# Altium footprint library Footprint Library.PcbLib: 53 footprints (part 3 of 4)
Each footprint in its own frame and in the unit in brackets; x right, y up, seen from the top. Pads: shape width x height; smd on the part's side, far side on the other; paste and mask are expansions set on the pad; w line width, h text height; cw(c..) or ccw(c..) is an arc to the next point about the centre after c.
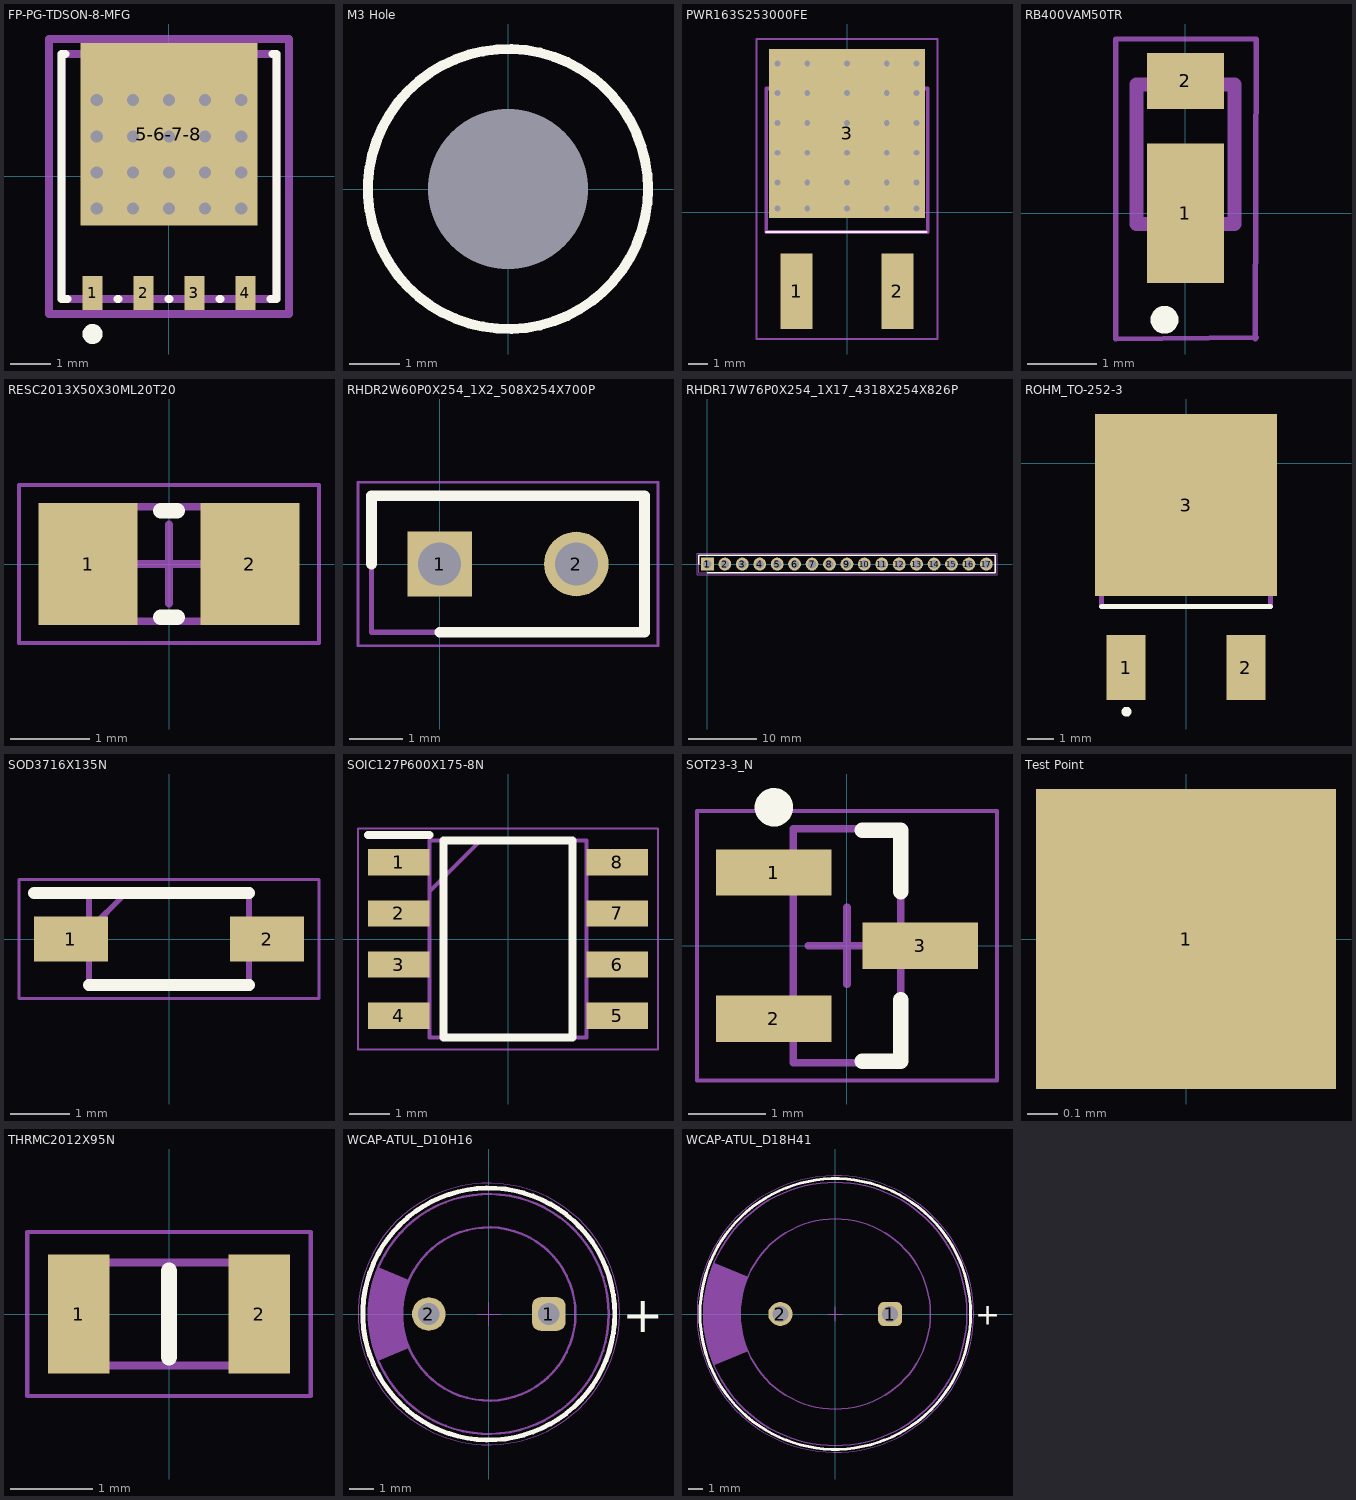
[diagram p2: the footprints below, top view; thin cyan lines are the x and y axes]

## FP-PG-TDSON-8-MFG [mm]
pads (5):
  rect 0.5x0.85 smd paste-1000 mask+0: 1(-1.905,-2.9) 2(-0.635,-2.9) 3(0.635,-2.9) 4(1.905,-2.9)
  rect 4.41x4.55 smd paste-1000 mask-1000: 5-6-7-8(0,1.05)
via 0.9,-0.8 diameter 0.6 hole 0.3
via -0.9,-0.8 diameter 0.6 hole 0.3
via -1.8,1.9 diameter 0.6 hole 0.3
via -1.8,1 diameter 0.6 hole 0.3
via -1.8,0.1 diameter 0.6 hole 0.3
via -0.9,0.1 diameter 0.6 hole 0.3
via -0.9,1 diameter 0.6 hole 0.3
via -0.9,1.9 diameter 0.6 hole 0.3
via 0,1.9 diameter 0.6 hole 0.3
via 0,1 diameter 0.6 hole 0.3
via 0,0.1 diameter 0.6 hole 0.3
via 0.9,0.1 diameter 0.6 hole 0.3
via 0.9,1 diameter 0.6 hole 0.3
via 0.9,1.9 diameter 0.6 hole 0.3
via 1.8,1.9 diameter 0.6 hole 0.3
via 1.8,1 diameter 0.6 hole 0.3
via 1.8,0.1 diameter 0.6 hole 0.3
via 1.8,-0.8 diameter 0.6 hole 0.3
via 0,-0.8 diameter 0.6 hole 0.3
via -1.8,-0.8 diameter 0.6 hole 0.3
Top Overlay:
  circle w0.25: c-1.905,-3.925 r0.125
  lines w0.2: -2.58,3.05 -2.675,3.05 -2.675,-3.05 -2.53,-3.05 ; -1.28,-3.05 -1.26,-3.05 ; -0.01,-3.05 0.01,-3.05 ; 1.26,-3.05 1.28,-3.05 ; 2.53,-3.05 2.675,-3.05 2.675,3.05 2.58,3.05
Top Paste:
  rectangle: -2.105,-3.28 -1.705,-2.53
  rectangle: -0.835,-3.28 -0.435,-2.53
  rectangle: 0.435,-3.28 0.835,-2.53
  rectangle: 1.705,-3.28 2.105,-2.53
  rectangle: -2.155,2.53 -1.655,3.28
  rectangle: -0.885,2.53 -0.385,3.28
  rectangle: 0.385,2.53 0.885,3.28
  rectangle: 1.655,2.53 2.155,3.28
  rectangle: -1.6,0.75 -0.1,2.25
  rectangle: 0.1,0.75 1.6,2.25
  rectangle: -1.6,-0.95 -0.1,0.55
  rectangle: 0.1,-0.95 1.6,0.55
Top Solder:
  region: -2.205,3.325 -2.205,-1.225 2.205,-1.225 2.205,3.325 1.605,3.325 1.605,2.525 0.935,2.525 0.935,3.325 0.335,3.325 0.335,2.525 -0.335,2.525 -0.335,3.325 -0.935,3.325 -0.935,2.525 -1.605,2.525 -1.605,3.325
Mechanical 5:
  lines w0.2: -2.995,-3.425 2.995,-3.425 2.995,3.425 -2.995,3.425 -2.995,-3.425
  text ".Designator" at 0,0.188 h1
Mechanical 13:
  lines w0.2: -2.675,-3.05 2.675,-3.05 2.675,3.05 -2.675,3.05 -2.675,-3.05
Mechanical 15:
  lines w0.2: -2.995,-3.425 2.995,-3.425 2.995,3.425 -2.995,3.425 -2.995,-3.425
Mechanical 16:
  lines w0.1: -0.5,0 0.5,0 ; 0,-0.5 0,0.5
3D body "Trans_Infineon_BSC040N10NS5ATMA1_eec.STEP": height 0.25, standoff 0, extent -2.995,-3.425 2.995,3.425

## M3 Hole [mm]
pads (1):
  round 0 hole 3.2 unplated mask+0.1: 1(0,0)
Top Overlay:
  circle w0.2: c0,0 r2.8
Bottom Overlay:
  circle w0.2: c0,0 r3
Keep-Out Layer:
  circle w0.1: c0,0 r2.8

## PCBComponent_1 [mm]

## PWR163S253000FE [mm]
pads (3):
  rect 1.62x3.81 smd: 1(-2.54,-3.97) 2(2.54,-3.97)
  rect 7.87x8.51 smd: 3(0,3.97)
via 3.5,0.2 diameter 0.6 hole 0.3
via 2,0.2 diameter 0.6 hole 0.3
via 0,0.2 diameter 0.6 hole 0.3
via -2,0.2 diameter 0.6 hole 0.3
via -3.5,0.2 diameter 0.6 hole 0.3
via 3.5,1.5 diameter 0.6 hole 0.3
via 2,1.5 diameter 0.6 hole 0.3
via 0,1.5 diameter 0.6 hole 0.3
via -2,1.5 diameter 0.6 hole 0.3
via -3.5,1.5 diameter 0.6 hole 0.3
via 3.5,3 diameter 0.6 hole 0.3
via 2,3 diameter 0.6 hole 0.3
via 0,3 diameter 0.6 hole 0.3
via -2,3 diameter 0.6 hole 0.3
via -3.5,3 diameter 0.6 hole 0.3
via 3.5,4.5 diameter 0.6 hole 0.3
via 2,4.5 diameter 0.6 hole 0.3
via 0,4.5 diameter 0.6 hole 0.3
via -2,4.5 diameter 0.6 hole 0.3
via -3.5,4.5 diameter 0.6 hole 0.3
via 3.5,6 diameter 0.6 hole 0.3
via 2,6 diameter 0.6 hole 0.3
via 0,6 diameter 0.6 hole 0.3
via -2,6 diameter 0.6 hole 0.3
via -3.5,6 diameter 0.6 hole 0.3
via 3.5,7.5 diameter 0.6 hole 0.3
via 2,7.5 diameter 0.6 hole 0.3
via 0,7.5 diameter 0.6 hole 0.3
via -2,7.5 diameter 0.6 hole 0.3
via -3.5,7.5 diameter 0.6 hole 0.3
Top Overlay:
  lines w0.1: -4.065,-1 4,-1
Mechanical 13:
  lines w0.2: -4.065,-1 -4.065,6.24 4.065,6.24 4.065,-1 -4.065,-1
Mechanical 15:
  lines w0.1: -4.565,-6.375 -4.565,8.725 4.565,8.725 4.565,-6.375 -4.565,-6.375

## RB400VAM50TR [mm]
pads (2):
  rect 1.1x2 smd: 1(0,0)
  rect 1.1x0.8 smd: 2(0,1.9)
Top Overlay:
  lines w0.2: -0.4,-1.525 ccw(c-0.3,-1.525) -0.2,-1.525 ccw(c-0.3,-1.525) -0.4,-1.525
Mechanical 13:
  lines w0.2: -0.7,-0.15 -0.7,1.85 0.7,1.85 0.7,-0.15 -0.7,-0.15
Mechanical 15:
  lines w0.076: 1,-1.8 1.016,2.5 ; 1,2.5 -1,2.5 -1,-1.8 1.016,-1.778
3D body "RB400VAM-50TR.stp": height 0.9, standoff 0, extent -0.7,-0.89 0.7,2.22

## RESC2013X50X30ML20T20 [mm] "Chip Resistor, 2-Leads, Body 2.00x1.25mm, IPC Low Density"
height 0.5
pads (2):
  rect 1.25x1.55 smd: 1(-1.025,0) 2(1.025,0)
Top Overlay:
  lines w0.2: -0.1,-0.675 0.1,-0.675 ; -0.1,0.675 0.1,0.675
Mechanical 13:
  lines w0.1: -1.1,-0.725 1.1,-0.725 1.1,0.725 -1.1,0.725 -1.1,-0.725
Mechanical 15:
  lines w0.05: -1.9,-1 1.9,-1 1.9,1 -1.9,1 -1.9,-1
  lines w0.1: -0.5,0 0.5,0 ; 0,-0.5 0,0.5
3D body: height 0.5, standoff 0, extent 0.8,-0.725 1.1,0.725
3D body: height 0.5, standoff 0, extent -1.1,-0.725 -0.8,0.725
3D body: height 0.5, standoff 0, extent -0.8,-0.725 0.8,0.725

## RHDR2W60P0X254_1X2_508X254X700P [mm]
pads (2):
  rect 1.2x1.2 hole 0.8: 1(0,0)
  round 1.2 hole 0.8: 2(2.54,0)
Top Overlay:
  lines w0.2: -1.27,0 -1.27,1.27 3.81,1.27 3.81,-1.27 0,-1.27
Mechanical 13:
  lines w0.1: -1.27,-1.27 3.81,-1.27 3.81,1.27 -1.27,1.27 -1.27,-1.27
Mechanical 15:
  lines w0.05: -1.52,-1.52 4.06,-1.52 4.06,1.52 -1.52,1.52 -1.52,-1.52
3D body "801-87-002-10-001101.stp": height 7, standoff -3, extent -1.27,-1.27 3.81,1.27

## RHDR17W76P0X254_1X17_4318X254X826P [mm]
pads (17):
  rect 1.875x1.875 hole 1.25: 1(0,0)
  round 1.875 hole 1.25: 2(2.54,0) 3(5.08,0) 4(7.62,0) 5(10.16,0) 6(12.7,0) 7(15.24,0) 8(17.78,0) 9(20.32,0) 10(22.86,0) 11(25.4,0) 12(27.94,0) 13(30.48,0) 14(33.02,0) 15(35.56,0) 16(38.1,0) 17(40.64,0)
Top Overlay:
  lines w0.2: -1.27,0 -1.27,1.305 41.945,1.305 41.945,-1.27 0,-1.27
Mechanical 13:
  lines w0.1: -1.27,-1.27 -1.27,1.27 41.91,1.27 41.91,-1.27 -1.27,-1.27
Mechanical 15:
  lines w0.05: -1.52,-1.52 -1.52,1.555 42.195,1.555 42.195,-1.52 -1.52,-1.52
3D body "929850-01-17-RA.stp": height 8.26, standoff -3.18, extent -1.27,-1.27 41.91,1.27

## ROHM_TO-252-3 [mm]
pads (3):
  rect 1.5x2.5 smd: 1(-2.3,-7.85) 2(2.3,-7.85)
  rect 7x7 smd: 3(0,-1.6)
Top Overlay:
  circle w0.2: c-2.288,-9.545 r0.089
  lines w0.2: -3.25,-5.5 3.25,-5.5
Mechanical 13:
  lines w0.2: -3.25,-5.5 -3.25,0 3.25,0 3.25,-5.5 -3.25,-5.5

## SOD3716X135N [mm]
pads (2):
  rect 1.25x0.75 smd: 1(-1.65,0) 2(1.65,0)
Top Overlay:
  lines w0.2: -2.275,0.775 1.35,0.775 ; -1.35,-0.775 1.35,-0.775
Mechanical 13:
  lines w0.1: -1.35,0.15 -0.725,0.775 ; -1.35,-0.775 1.35,-0.775 1.35,0.775 -1.35,0.775 -1.35,-0.775
Mechanical 15:
  lines w0.05: -2.525,-1 -2.525,1 2.525,1 2.525,-1 1.262,-1 -1.262,-1 -2.525,-1
3D body "1N4148W-E3-08.stp": height 1.35, standoff 0, extent -1.85,-0.775 1.85,0.775

## SOIC127P600X175-8N [mm]
pads (8):
  rect 1.525x0.65 smd: 1(-2.712,1.905) 2(-2.712,0.635) 3(-2.712,-0.635) 4(-2.712,-1.905) 5(2.712,-1.905) 6(2.712,-0.635) 7(2.712,0.635) 8(2.712,1.905)
Top Overlay:
  lines w0.2: -3.475,2.58 -1.95,2.58 ; -1.6,-2.45 -1.6,2.45 1.6,2.45 1.6,-2.45 -1.6,-2.45
Mechanical 13:
  lines w0.1: -1.95,1.18 -0.68,2.45 ; -1.95,-2.45 -1.95,2.45 1.95,2.45 1.95,-2.45 -1.95,-2.45
Mechanical 15:
  lines w0.05: -3.725,-2.75 -3.725,2.75 3.725,2.75 3.725,-2.75 -3.725,-2.75
3D body "NE555DR.stp": height 1.75, standoff 0, extent -3,-2.45 3,2.45

## SOT23-3_N [mm] "SOT23, 3-Leads, Body 2.9x1.3mm, Pitch 0.95mm, Lead Span 2.4mm, IPC Medium Density"
height 1.12
pads (3):
  rect 1.5x0.6 smd: 1(-0.95,0.95) 2(-0.95,-0.95) 3(0.95,0)
Top Overlay:
  circle w0.25: c-0.95,1.8 r0.125
  lines w0.2: 0.2,-1.5 0.7,-1.5 0.7,-0.7 ; 0.2,1.5 0.7,1.5 0.7,0.7
Mechanical 13:
  lines w0.1: -0.7,-1.52 0.7,-1.52 0.7,1.52 -0.7,1.52 -0.7,-1.52
Mechanical 15:
  lines w0.05: -1.95,-1.75 1.95,-1.75 1.95,1.75 -1.95,1.75 -1.95,-1.75
  lines w0.1: -0.5,0 0.5,0 ; 0,-0.5 0,0.5
3D body: height 1.12, standoff 0.01, extent -0.7,-1.52 0.7,1.52

## Test Point [mm]
pads (1):
  rect 1x1 smd: 1(0,0)

## THRMC2012X95N [mm]
pads (2):
  rect 0.75x1.45 smd: 1(-1.1,0) 2(1.1,0)
Top Overlay:
  lines w0.2: 0,-0.525 0,0.525
Mechanical 13:
  lines w0.1: -1,-0.625 -1,0.625 1,0.625 1,-0.625 -1,-0.625
Mechanical 15:
  lines w0.05: -1.725,-1 -1.725,1 1.725,1 1.725,-1 -1.725,-1
3D body "NTCS0805E3103HMT.stp": height 0.95, standoff 0, extent -1,-0.625 1,0.625

## WCAP-ATUL_D10H16 [mm] "Aluminum Electrolytic Capacitors, 10x16mm"
height 16
pads (2):
  rrect50% 1.4x1.4 hole 0.9: 1(2.5,0)
  round 1.4 hole 0.9: 2(-2.5,0)
Top Overlay:
  circle w0.2: c0,0 r5.25
  text "+" at 5.55,-0.75 h1.5
Mechanical 11:
  circle w0.1: c0,0 r5
  circle w0.1: c0,0 r3.61
  region: -4.607,-1.944 -3.323,-1.41 -3.324,-1.409 -3.39,-1.24 -3.497,-0.895 -3.569,-0.541 -3.605,-0.181 -3.605,0.181 -3.569,0.541 -3.497,0.895 -3.39,1.24 -3.324,1.409 -3.323,1.41 -4.607,1.944 -4.704,1.714 -4.851,1.237 -4.95,0.747 -5,0.25 -5,-0.25 -4.95,-0.747 -4.851,-1.237 -4.704,-1.714
  text ".Designator" at -2.5,-0.75 h1.5
Mechanical 15:
  circle w0.05: c0,0 r5.45
  lines w0.05: -0.5,0 0.5,0 ; 0,-0.5 0,0.5
3D body "10x16x5x0.6.stp": height 16.31, standoff -19.91, extent -4.99,-5 5,4.999

## WCAP-ATUL_D18H41 [mm] "Aluminum Electrolytic Capacitors, 18x41mm"
height 41
pads (2):
  rrect50% 1.65x1.65 hole 1.1: 1(3.75,0)
  round 1.65 hole 1.1: 2(-3.75,0)
Top Overlay:
  circle w0.2: c0,0 r9.25
  text "+" at 9.55,-0.75 h1.5
Mechanical 11:
  circle w0.1: c0,0 r6.5
  circle w0.1: c0,0 r9
  region: -8.291,-3.501 -5.985,-2.536 -5.986,-2.533 -6.105,-2.23 -6.298,-1.609 -6.427,-0.972 -6.492,-0.325 -6.492,0.325 -6.427,0.972 -6.298,1.609 -6.105,2.23 -5.986,2.533 -5.985,2.536 -8.291,3.501 -8.466,3.086 -8.732,2.227 -8.91,1.345 -9,0.45 -9,-0.45 -8.91,-1.345 -8.732,-2.227 -8.466,-3.086
  text ".Designator" at -2.5,-0.75 h1.5
Mechanical 15:
  circle w0.05: c0,0 r9.45
  lines w0.05: -0.5,0 0.5,0 ; 0,-0.5 0,0.5
3D body "18x41x7.5x0.8.stp": height 41.31, standoff -19.91, extent -8.99,-9 9,8.999